# Altium footprint library SOIC254P1030X390-4N_EL817(S1)(A)(TU)-VG.PcbLib: 1 footprints
Each footprint in its own frame and in the unit in brackets; x right, y up, seen from the top. Pads: shape width x height; smd on the part's side, far side on the other; paste and mask are expansions set on the pad; w line width, h text height; cw(c..) or ccw(c..) is an arc to the next point about the centre after c.
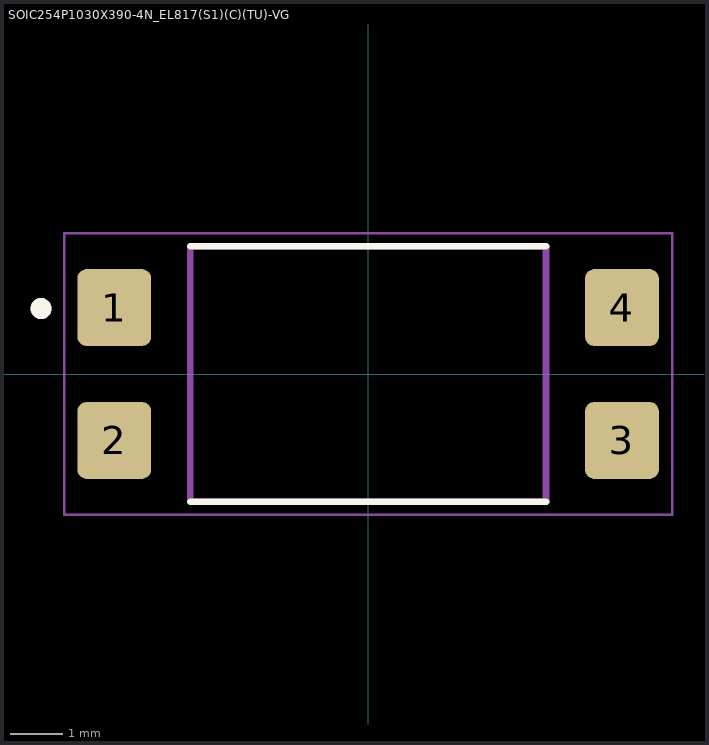
[diagram p0: the footprint, top view; thin cyan lines are the x and y axes]

## SOIC254P1030X390-4N_EL817(S1)(C)(TU)-VG [mm]
pads (4):
  rrect25% 1.41x1.47 smd paste+0 mask+0.102: 1(-4.85,1.27) 2(-4.85,-1.27) 3(4.85,-1.27) 4(4.85,1.27)
Top Overlay:
  circle w0.2: c-6.25,1.25 r0.1
  lines w0.127: -3.4,-2.44 3.4,-2.44 ; -3.4,2.44 3.4,2.44
Assembly Top:
  circle w0.2: c-6.25,1.25 r0.1
  lines w0.127: -3.4,-2.44 3.4,-2.44 3.4,2.44 -3.4,2.44 -3.4,-2.44
Courtyard Top:
  lines w0.05: -5.81,-2.69 -5.81,2.69 5.81,2.69 5.81,-2.69 -5.81,-2.69
3D body "step_temp.STEP": height 3.9, standoff 0, extent -5.15,-2.29 5.15,2.29